# EAGLE library part INA12X (library ic-analog)
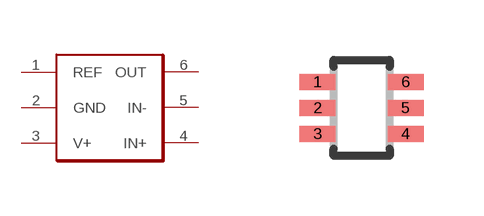
[diagram p1: symbol with the pads of SC70; footprint SC70]

Designator prefix IC

## INA12X  [SC70]
1  REF  pas
2  GND  pas
3  V+  pas
4  IN+  pas
5  IN-  pas
6  OUT  pas

## Footprint SC70 (pad centres in mm)
6-pin plastic small-outline package
smd 0.9 x 0.4: 1 -1.1,0.65; 2 -1.1,0; 3 -1.1,-0.65; 4 1.1,-0.65; 5 1.1,0; 6 1.1,0.65